# Altium schematic symbol library Symbol.SchLib: 1 symbol
Pins are listed as number, name and electrical type; pins without a type are passive.

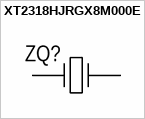
[diagram p0: symbol XT2318HJRGX8M000E]

## XT2318HJRGX8M000E
designator ZQ?  (value not drawn)
Quartz Crystal
footprint XT2318HJRGX8M000E (Vishay / Dale) (Crystal, 4-Leads, Body 3.20x2.50 mm, IPC Medium Density)
pins: 1, 3